# EAGLE library part CONNECTOR-19--20-TO-38 (library eagle-library-engr-245-s22)
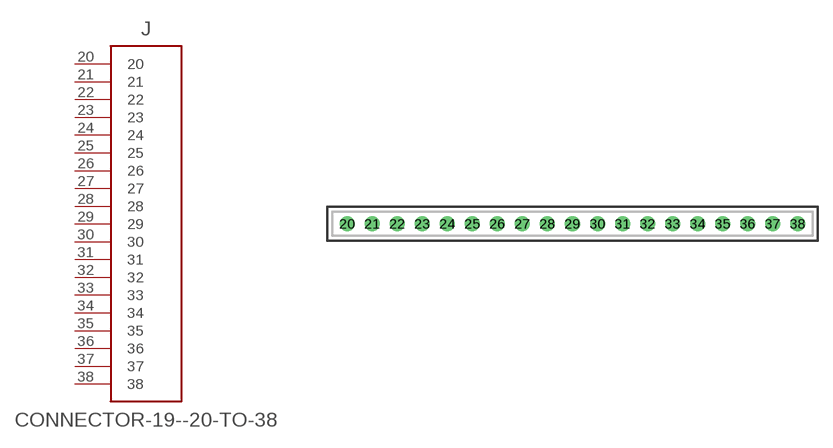
[diagram p13: symbol with the pads of ESQ-119-XX-XX-S--PIN-1-ROUND; footprint ESQ-119-XX-XX-S--PIN-1-ROUND]

Designator prefix J

## CONNECTOR-19--20-TO-38  [ESQ-119-XX-XX-S--PIN-1-ROUND]
20  20
21  21
22  22
23  23
24  24
25  25
26  26
27  27
28  28
29  29
30  30
31  31
32  32
33  33
34  34
35  35
36  36
37  37
38  38

## Footprint ESQ-119-XX-XX-S--PIN-1-ROUND (pad centres in mm)
drill 1.016 pad 1.524: 20 -22.86,0; 21 -20.32,0; 22 -17.78,0; 23 -15.24,0; 24 -12.7,0; 25 -10.16,0; 26 -7.62,0; 27 -5.08,0; 28 -2.54,0; 29 0,0; 30 2.54,0; 31 5.08,0; 32 7.62,0; 33 10.16,0; 34 12.7,0; 35 15.24,0; 36 17.78,0; 37 20.32,0; 38 22.86,0